# Altium footprint library SMBJ5_0CA.PcbLib: 1 footprints
Each footprint in its own frame and in the unit in brackets; x right, y up, seen from the top. Pads: shape width x height; smd on the part's side, far side on the other; paste and mask are expansions set on the pad; w line width, h text height; cw(c..) or ccw(c..) is an arc to the next point about the centre after c.
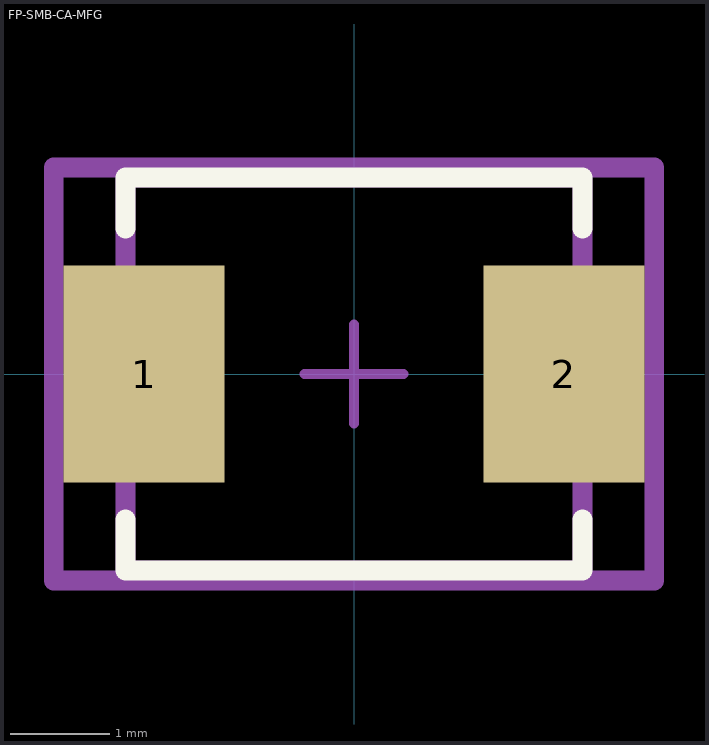
[diagram p0: the footprint, top view; thin cyan lines are the x and y axes]

## FP-SMB-CA-MFG [mm]
pads (2):
  rect 1.62x2.18 smd paste+0 mask+0: 1(-2.11,0) 2(2.11,0)
Top Overlay:
  lines w0.2: -2.3,-1.465 -2.3,-1.975 2.3,-1.975 2.3,-1.465 ; -2.3,1.465 -2.3,1.975 2.3,1.975 2.3,1.465
Top Assembly:
  lines w0.2: -3.02,-2.075 -3.02,2.075 3.02,2.075 3.02,-2.075 -3.02,-2.075
  text ".Designator" at 0,0.188 h1
Top 3D Body:
  lines w0.2: -2.3,-1.975 -2.3,1.975 2.3,1.975 2.3,-1.975 -2.3,-1.975
Top Courtyard:
  lines w0.2: -3.02,-2.075 -3.02,2.075 3.02,2.075 3.02,-2.075 -3.02,-2.075
Top Component Center:
  lines w0.1: -0.5,0 0.5,0 ; 0,-0.5 0,0.5
3D body "Diode_STMicroelectronics_SM6T18CA_eec.STEP": height 0.25, standoff 0, extent -3.02,-2.075 3.02,2.075